# Altium footprint library PMA3-83LN&plus_.PcbLib: 3 footprints
Each footprint in its own frame and in the unit in brackets; x right, y up, seen from the top. Pads: shape width x height; smd on the part's side, far side on the other; paste and mask are expansions set on the pad; w line width, h text height; cw(c..) or ccw(c..) is an arc to the next point about the centre after c.
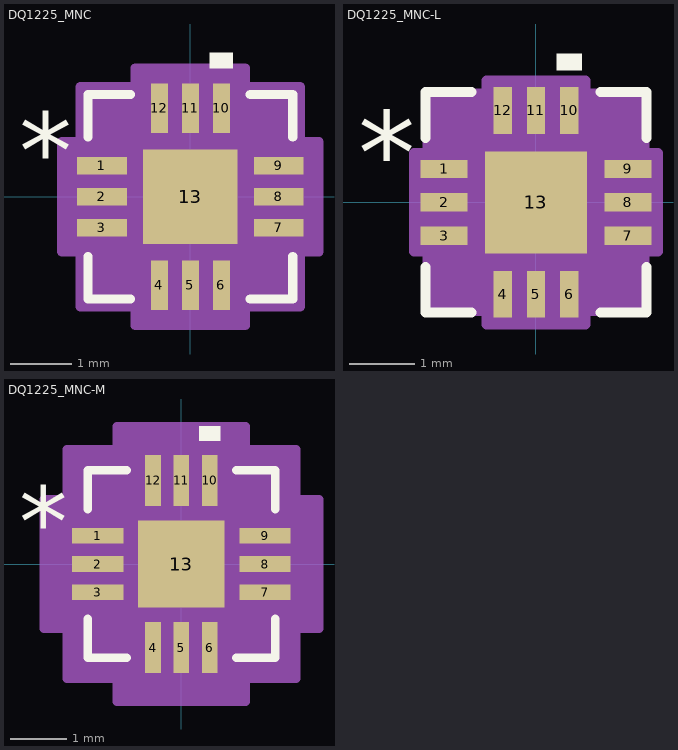
[diagram p0: the footprints below, top view; thin cyan lines are the x and y axes]

## DQ1225_MNC [mil]
pads (13):
  rect 32x11 smd paste+0 mask+0: 1(-57,20) 2(-57,0) 3(-57,-20) 7(57,-20) 8(57,0) 9(57,20)
  rect 11x32 smd paste+0 mask+0: 4(-20,-57) 5(0,-57) 6(20,-57) 10(20,57) 11(0,57) 12(-20,57)
  rect 61x61 smd paste+0 mask+0: 13(0,0)
Top Overlay:
  region: 27.5,83 12.5,83 12.5,93 27.5,93
  lines w6: -66,-38.6 -66,-66 -38.6,-66 ; -66,38.6 -66,66 -38.6,66 ; 38.6,-66 66,-66 66,-38.6 ; 38.6,66 66,66 66,38.6
  text "*" at -110.5,5 h50
Mechanical 13:
  lines w1: -61,11 -11,61 ; -61,-61 61,-61 ; -61,-61 -61,61 ; -61,-61 -61,-61 ; -61,-26.5 -61,-13.5 ; -61,-26.5 -61,-13.5 ; -61,-26.5 -61,-26.5 ; -61,-13.5 -61,-13.5 ; -61,-6.5 -61,6.5 ; -61,-6.5 -61,6.5 ; -61,-6.5 -61,-6.5 ; -61,6.5 -61,6.5 ; -61,13.5 -61,26.5 ; -61,13.5 -61,26.5 ; -61,13.5 -61,13.5 ; -61,26.5 -61,26.5 ; -61,61 61,61 ; -61,61 -61,61 ; -26.5,-61 -13.5,-61 ; -26.5,-61 -26.5,-61 ; -26.5,-61 -13.5,-61 ; -26.5,61 -13.5,61 ; -26.5,61 -13.5,61 ; -26.5,61 -26.5,61 ; -13.5,-61 -13.5,-61 ; -13.5,61 -13.5,61 ; -6.5,-61 6.5,-61 ; -6.5,-61 -6.5,-61 ; -6.5,-61 6.5,-61 ; -6.5,61 6.5,61 ; -6.5,61 6.5,61 ; -6.5,61 -6.5,61 ; 6.5,-61 6.5,-61 ; 6.5,61 6.5,61 ; 13.5,-61 26.5,-61 ; 13.5,-61 13.5,-61 ; 13.5,-61 26.5,-61 ; 13.5,61 26.5,61 ; 13.5,61 26.5,61 ; 13.5,61 13.5,61 ; 26.5,-61 26.5,-61 ; 26.5,61 26.5,61 ; 61,-61 61,-61 ; 61,-61 61,61 ; 61,-26.5 61,-13.5 ; 61,-26.5 61,-26.5 ; 61,-26.5 61,-13.5 ; 61,-13.5 61,-13.5 ; 61,-6.5 61,6.5 ; 61,-6.5 61,-6.5 ; 61,-6.5 61,6.5 ; 61,6.5 61,6.5 ; 61,13.5 61,26.5 ; 61,13.5 61,13.5 ; 61,13.5 61,26.5 ; 61,26.5 61,26.5 ; 61,61 61,61
  text "*" at -53.5,5 h50
Mechanical 15:
  region: -35.5,-71 -71,-71 -71,-35.5 -83,-35.5 -83,35.5 -71,35.5 -71,71 -35.5,71 -35.5,83 35.5,83 35.5,71 71,71 71,35.5 83,35.5 83,-35.5 71,-35.5 71,-71 35.5,-71 35.5,-83 -35.5,-83
  lines w6: -83,-35.5 -71,-35.5 -71,-71 -35.5,-71 -35.5,-83 35.5,-83 35.5,-71 71,-71 71,-35.5 83,-35.5 83,35.5 71,35.5 71,71 35.5,71 35.5,83 -35.5,83 -35.5,71 -71,71 -71,35.5 -83,35.5 -83,-35.5
3D body "DQ1225_MNC.step": height 39.09, standoff 0, extent -60.98,-60.98 60.98,60.98

## DQ1225_MNC-L [mil]
pads (13):
  rect 28x11 smd paste+0 mask+0: 1(-55,20) 2(-55,0) 3(-55,-20) 7(55,-20) 8(55,0) 9(55,20)
  rect 11x28 smd paste+0 mask+0: 4(-20,-55) 5(0,-55) 6(20,-55) 10(20,55) 11(0,55) 12(-20,55)
  rect 61x61 smd paste+0 mask+0: 13(0,0)
Top Overlay:
  region: 27.5,79 12.5,79 12.5,89 27.5,89
  lines w6: -66,-38.6 -66,-66 -38.6,-66 ; -66,38.6 -66,66 -38.6,66 ; 38.6,-66 66,-66 66,-38.6 ; 38.6,66 66,66 66,38.6
  text "*" at -106.5,5 h50
Mechanical 13:
  lines w1: -61,11 -11,61 ; -61,-61 61,-61 ; -61,-61 -61,61 ; -61,-61 -61,-61 ; -61,-26.5 -61,-13.5 ; -61,-26.5 -61,-13.5 ; -61,-26.5 -61,-26.5 ; -61,-13.5 -61,-13.5 ; -61,-6.5 -61,6.5 ; -61,-6.5 -61,6.5 ; -61,-6.5 -61,-6.5 ; -61,6.5 -61,6.5 ; -61,13.5 -61,26.5 ; -61,13.5 -61,26.5 ; -61,13.5 -61,13.5 ; -61,26.5 -61,26.5 ; -61,61 61,61 ; -61,61 -61,61 ; -26.5,-61 -13.5,-61 ; -26.5,-61 -26.5,-61 ; -26.5,-61 -13.5,-61 ; -26.5,61 -13.5,61 ; -26.5,61 -13.5,61 ; -26.5,61 -26.5,61 ; -13.5,-61 -13.5,-61 ; -13.5,61 -13.5,61 ; -6.5,-61 6.5,-61 ; -6.5,-61 -6.5,-61 ; -6.5,-61 6.5,-61 ; -6.5,61 6.5,61 ; -6.5,61 6.5,61 ; -6.5,61 -6.5,61 ; 6.5,-61 6.5,-61 ; 6.5,61 6.5,61 ; 13.5,-61 26.5,-61 ; 13.5,-61 13.5,-61 ; 13.5,-61 26.5,-61 ; 13.5,61 26.5,61 ; 13.5,61 26.5,61 ; 13.5,61 13.5,61 ; 26.5,-61 26.5,-61 ; 26.5,61 26.5,61 ; 61,-61 61,-61 ; 61,-61 61,61 ; 61,-26.5 61,-13.5 ; 61,-26.5 61,-26.5 ; 61,-26.5 61,-13.5 ; 61,-13.5 61,-13.5 ; 61,-6.5 61,6.5 ; 61,-6.5 61,-6.5 ; 61,-6.5 61,6.5 ; 61,6.5 61,6.5 ; 61,13.5 61,26.5 ; 61,13.5 61,13.5 ; 61,13.5 61,26.5 ; 61,26.5 61,26.5 ; 61,61 61,61
  text "*" at -53.5,5 h50
Mechanical 15:
  region: -29.5,-65 -65,-65 -65,-29.5 -73,-29.5 -73,29.5 -65,29.5 -65,65 -29.5,65 -29.5,73 29.5,73 29.5,65 65,65 65,29.5 73,29.5 73,-29.5 65,-29.5 65,-65 29.5,-65 29.5,-73 -29.5,-73
  lines w6: -73,-29.5 -65,-29.5 -65,-65 -29.5,-65 -29.5,-73 29.5,-73 29.5,-65 65,-65 65,-29.5 73,-29.5 73,29.5 65,29.5 65,65 29.5,65 29.5,73 -29.5,73 -29.5,65 -65,65 -65,29.5 -73,29.5 -73,-29.5
3D body "DQ1225_MNC.step": height 39.09, standoff 0, extent -60.98,-60.98 60.98,60.98

## DQ1225_MNC-M [mil]
pads (13):
  rect 36x11 smd paste+0 mask+0: 1(-59,20) 2(-59,0) 3(-59,-20) 7(59,-20) 8(59,0) 9(59,20)
  rect 11x36 smd paste+0 mask+0: 4(-20,-59) 5(0,-59) 6(20,-59) 10(20,59) 11(0,59) 12(-20,59)
  rect 61x61 smd paste+0 mask+0: 13(0,0)
Top Overlay:
  region: 27.5,87 12.5,87 12.5,97 27.5,97
  lines w6: -66,-38.6 -66,-66 -38.6,-66 ; -66,38.6 -66,66 -38.6,66 ; 38.6,-66 66,-66 66,-38.6 ; 38.6,66 66,66 66,38.6
  text "*" at -114.5,5 h50
Mechanical 13:
  lines w1: -61,11 -11,61 ; -61,-61 61,-61 ; -61,-61 -61,61 ; -61,-61 -61,-61 ; -61,-26.5 -61,-13.5 ; -61,-26.5 -61,-13.5 ; -61,-26.5 -61,-26.5 ; -61,-13.5 -61,-13.5 ; -61,-6.5 -61,6.5 ; -61,-6.5 -61,6.5 ; -61,-6.5 -61,-6.5 ; -61,6.5 -61,6.5 ; -61,13.5 -61,26.5 ; -61,13.5 -61,26.5 ; -61,13.5 -61,13.5 ; -61,26.5 -61,26.5 ; -61,61 61,61 ; -61,61 -61,61 ; -26.5,-61 -13.5,-61 ; -26.5,-61 -26.5,-61 ; -26.5,-61 -13.5,-61 ; -26.5,61 -13.5,61 ; -26.5,61 -13.5,61 ; -26.5,61 -26.5,61 ; -13.5,-61 -13.5,-61 ; -13.5,61 -13.5,61 ; -6.5,-61 6.5,-61 ; -6.5,-61 -6.5,-61 ; -6.5,-61 6.5,-61 ; -6.5,61 6.5,61 ; -6.5,61 6.5,61 ; -6.5,61 -6.5,61 ; 6.5,-61 6.5,-61 ; 6.5,61 6.5,61 ; 13.5,-61 26.5,-61 ; 13.5,-61 13.5,-61 ; 13.5,-61 26.5,-61 ; 13.5,61 26.5,61 ; 13.5,61 26.5,61 ; 13.5,61 13.5,61 ; 26.5,-61 26.5,-61 ; 26.5,61 26.5,61 ; 61,-61 61,-61 ; 61,-61 61,61 ; 61,-26.5 61,-13.5 ; 61,-26.5 61,-26.5 ; 61,-26.5 61,-13.5 ; 61,-13.5 61,-13.5 ; 61,-6.5 61,6.5 ; 61,-6.5 61,-6.5 ; 61,-6.5 61,6.5 ; 61,6.5 61,6.5 ; 61,13.5 61,26.5 ; 61,13.5 61,13.5 ; 61,13.5 61,26.5 ; 61,26.5 61,26.5 ; 61,61 61,61
  text "*" at -53.5,5 h50
Mechanical 15:
  region: -45.5,-81 -81,-81 -81,-45.5 -97,-45.5 -97,45.5 -81,45.5 -81,81 -45.5,81 -45.5,97 45.5,97 45.5,81 81,81 81,45.5 97,45.5 97,-45.5 81,-45.5 81,-81 45.5,-81 45.5,-97 -45.5,-97
  lines w6: -97,-45.5 -81,-45.5 -81,-81 -45.5,-81 -45.5,-97 45.5,-97 45.5,-81 81,-81 81,-45.5 97,-45.5 97,45.5 81,45.5 81,81 45.5,81 45.5,97 -45.5,97 -45.5,81 -81,81 -81,45.5 -97,45.5 -97,-45.5
3D body "DQ1225_MNC.step": height 39.09, standoff 0, extent -60.98,-60.98 60.98,60.98